# EAGLE library part DAC8811 (library faout)
16-Bit, Serial Input Multiplying Digital-to-Analog Converter
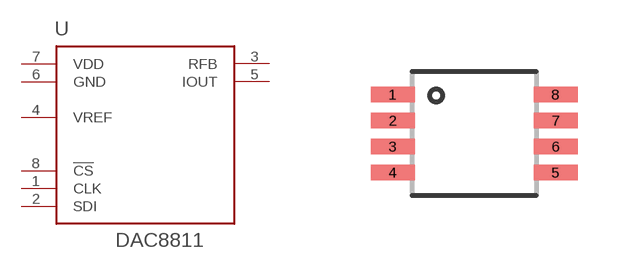
[diagram p3: symbol with the pads of MSOP-8; footprint MSOP-8]

Designator prefix U

## DAC8811DGK (OC_FARNELL: 2323433)  [MSOP-8]
1  CLK
2  SDI
3  RFB
4  VREF
5  IOUT
6  GND
7  VDD
8  !CS

## Footprint MSOP-8 (pad centres in mm)
smd 1.1 x 0.38: 1 -2.038,0.975; 2 -2.038,0.325; 3 -2.038,-0.325; 4 -2.038,-0.975; 5 2.038,-0.975; 6 2.038,-0.325; 7 2.038,0.325; 8 2.038,0.975